# Altium integrated library Copy Pi ADC.IntLib: 19 symbols
Pins are listed as number, name and electrical type; pins without a type are passive.

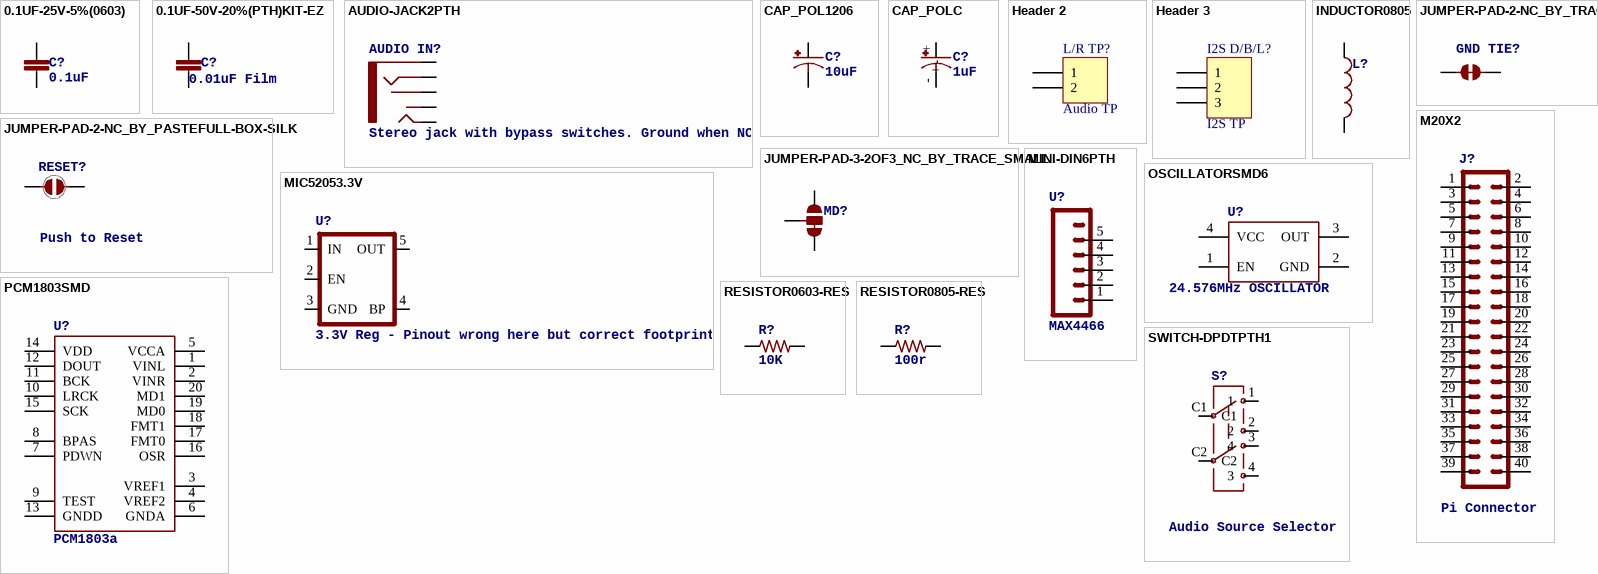
[diagram p0: symbols 0.1UF-25V-5%(0603) to SWITCH-DPDTPTH1]

## 0.1UF-25V-5%(0603)
designator C?, comment 0.1uF
PROD_ID: CAP-08604
footprint 0603-CAP
pins: 1, 2

## 0.1UF-50V-20%(PTH)KIT-EZ
designator C?, comment 0.01uF Film
CAP-08370; PROD_ID: CAP-08370
footprint CAP-PTH-SMALL-KIT
footprint WIMA PCM 10
pins: 1, 2

## AUDIO-JACK2PTH
designator AUDIO IN?, comment Stereo jack with bypass switches. Ground when NC
PROD_ID: CONN-08774
footprint AUDIO-JACK
pins: RING, RSH, SLEEVE, TIP, TSH

## CAP_POL1206
designator C?, comment 10uF
Capacitor PolarizedThese are standard SMD and PTH capacitors. Normally 10uF, 47uF, and 100uF in electrolytic and tantalum varieties. Always verify the external diameter of the through hole cap, it varies with capacity, voltage, and manufacturer. The EIA devices should be standard.
footprint EIA3216
pins: A +, C -

## CAP_POLC
designator C?, comment 1uF
Capacitor PolarizedThese are standard SMD and PTH capacitors. Normally 10uF, 47uF, and 100uF in electrolytic and tantalum varieties. Always verify the external diameter of the through hole cap, it varies with capacity, voltage, and manufacturer. The EIA devices should be standard.
footprint PANASONIC_B_ELECTRO
pins: +, -

## Header 2
designator L/R TP?, comment Audio TP
LatestRevisionDate: 17-Jul-2002; LatestRevisionNote: Re-released for DXP Platform.; Publisher: Altium Limited
footprint HDR1X2 (Connector; Header; 2 Position)
signal-integrity model Connector
pins: 1, 2

## Header 3
designator I2S D/B/L?, comment I2S TP
Header, 3-Pin; LatestRevisionDate: 17-Jul-2002; LatestRevisionNote: Re-released for DXP Platform.; Publisher: Altium Limited
footprint HDR1X3 (Connector; Header; 3 Position)
signal-integrity model Connector
pins: 1, 2, 3

## INDUCTOR0805
designator L?
Inductors   Basic Inductor/Choke - 0603 and 1206. Footprints are not proven and vary greatly between part numbers. INDUCTOR POWER 3.3UH 4.0A SMD 0.197" L x 0.197" W x 0.177" H (5.00mm x 5.00mm x 4.50mm)
footprint 0805
pins: 1, 2

## JUMPER-PAD-2-NC_BY_PASTEFULL-BOX-SILK
designator RESET?, comment Push to Reset
footprint PAD-JUMPER-2-NC_BY_PASTE_YES_SILK_FULL_BOX
pins: 1, 2

## JUMPER-PAD-2-NC_BY_TRACE
designator GND TIE?  (value not drawn)  (net tie, no BOM)
footprint PAD-JUMPER-2-NC_BY_TRACE_YES_SILK
pins: 1, 2

## JUMPER-PAD-3-2OF3_NC_BY_TRACE_SMALL
designator MD?  (net tie, no BOM)
JUMPER-PAD-3-2OF3_NC_BY_TRACE_SMALL
footprint PAD-JUMPER-3-2OF3_NC_BY_TRACE_YES_SILK_FULL_BOX
pins: 1, 2, 3

## M20X2
designator J?, comment Pi Connector
0.1" spaced headers
footprint 2X20
pins: 1, 2, 3, 4, 5, 6, 7, 8, 9, 10, 11, 12, 13, 14, 15, 16, 17, 18, 19, 20, 21, 22, 23, 24, 25, 26, 27, 28, 29, 30, 31, 32, 33, 34, 35, 36, 37, 38, 39, 40

## MIC52053.3V
designator U?, comment 3.3V Reg - Pinout wrong here but correct footprint
PROD_ID: VREG-00822
footprint SOT23-5
pins: 1 IN, 2 EN, 3 GND, 4 BP, 5 OUT

## MINI-DIN6PTH
designator U?, comment MAX4466
footprint MINI-DIN6
footprint SC70
pins: 1, 2, 3, 4, 5

## OSCILLATORSMD6
designator U?, comment 24.576MHz OSCILLATOR
footprint CRYSTAL-SMD-7.5X5.2-6PIN
pins: 1 EN, 2 GND, 3 OUT, 4 VCC

## PCM1803SMD
designator U?, comment PCM1803a
24-bit ADC
footprint SSOP20
pins: 1 VINL, 2 VINR, 3 VREF1, 4 VREF2, 5 VCCA, 6 GNDA, 7 PDWN, 8 BPAS, 9 TEST, 10 LRCK, 11 BCK, 12 DOUT, 13 GNDD, 14 VDD, 15 SCK, 16 OSR, 17 FMT0, 18 FMT1, 19 MD0, 20 MD1

## RESISTOR0603-RES
designator R?, comment 10K
footprint 0603-RES
pins: 1, 2

## RESISTOR0805-RES
designator R?, comment 100r
ResistorBasic schematic elements and footprints for 0603, 1206, and PTH resistors.
footprint 0805
pins: 1, 2

## SWITCH-DPDTPTH1
designator S?, comment Audio Source Selector
footprint Switch DPDT MCS221N-2017
pins: 1, 2, 3 4, 4 3, C1, C2